# EAGLE library part AD8354ACPZ (library receiver_2v0)
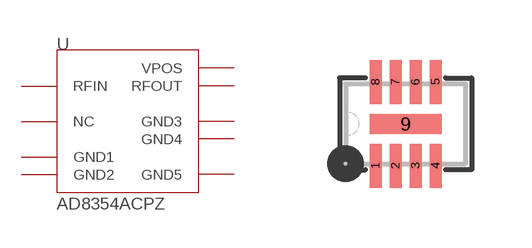
[diagram p2: symbol with the pads of CP-8-1; footprint CP-8-1]

Designator prefix U

## AD8354ACPZ  [CP-8-1]
1  GND1  pas
2  NC  pas
3  RFIN  pas
4  GND2  pas
5  GND3  pas
6  VPOS  pwr
7  RFOUT  pas
8  GND4  pas
9  GND5  pas

## Footprint CP-8-1 (pad centres in mm)
smd 0.3 x 1.1: 1 -0.75,-1.05; 2 -0.25,-1.05; 3 0.25,-1.05; 4 0.75,-1.05; 5 0.75,1.05; 6 0.25,1.05; 7 -0.25,1.05; 8 -0.75,1.05
smd 1.8 x 0.5: 9 0,0